# EAGLE library part AP64350SP-13 (library AP64350SP-13)
Switching Voltage Regulators 3.8V-40V 3.5A LOW IQ SYN BUCK PRG SW FRQ Source: Datasheet <https://www.diodes.com//assets/Datasheets/AP64350.pdf>
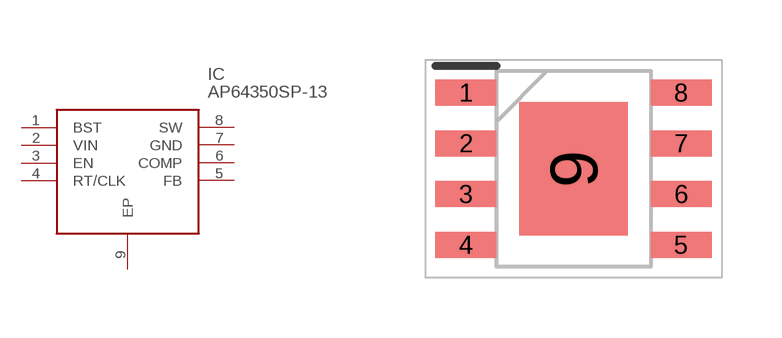
[diagram p0: symbol with the pads of SOIC127P600X163-9N; footprint SOIC127P600X163-9N]

Designator prefix IC

## AP64350SP-13 (Description: Switching Voltage Regulators 3.8V-40V 3.5A LOW IQ SYN BUCK PRG SW FRQ; Height: 1.63mm; Manufacturer_Name: Diodes Incorporated; Manufacturer_Part_Number: AP64350SP-13; Mouser_Part_Number: 621-AP64350SP-13; Mouser_Price-Stock: https://www.mouser.co.uk/ProductDetail/Diodes-Incorporated/AP64350SP-13?qs=P1JMDcb91o71f8WTy9mMPQ%3D%3D)  [SOIC127P600X163-9N]
1  BST
2  VIN
3  EN
4  RT/CLK
5  FB
6  COMP
7  GND
8  SW
9  EP

## Footprint SOIC127P600X163-9N (pad centres in mm)
SO-8(EP)_223sss
smd 1.525 x 0.65: 1 -2.688,1.905; 2 -2.688,0.635; 3 -2.688,-0.635; 4 -2.688,-1.905; 5 2.688,-1.905; 6 2.688,-0.635; 7 2.688,0.635; 8 2.688,1.905
smd 2.71 x 3.35: 9 0,0